# Altium footprint library alientek_sch_lib.PcbLib: 370 footprints (part 7 of 24)
Each footprint in its own frame and in the unit in brackets; x right, y up, seen from the top. Pads: shape width x height; smd on the part's side, far side on the other; paste and mask are expansions set on the pad; w line width, h text height; cw(c..) or ccw(c..) is an arc to the next point about the centre after c.
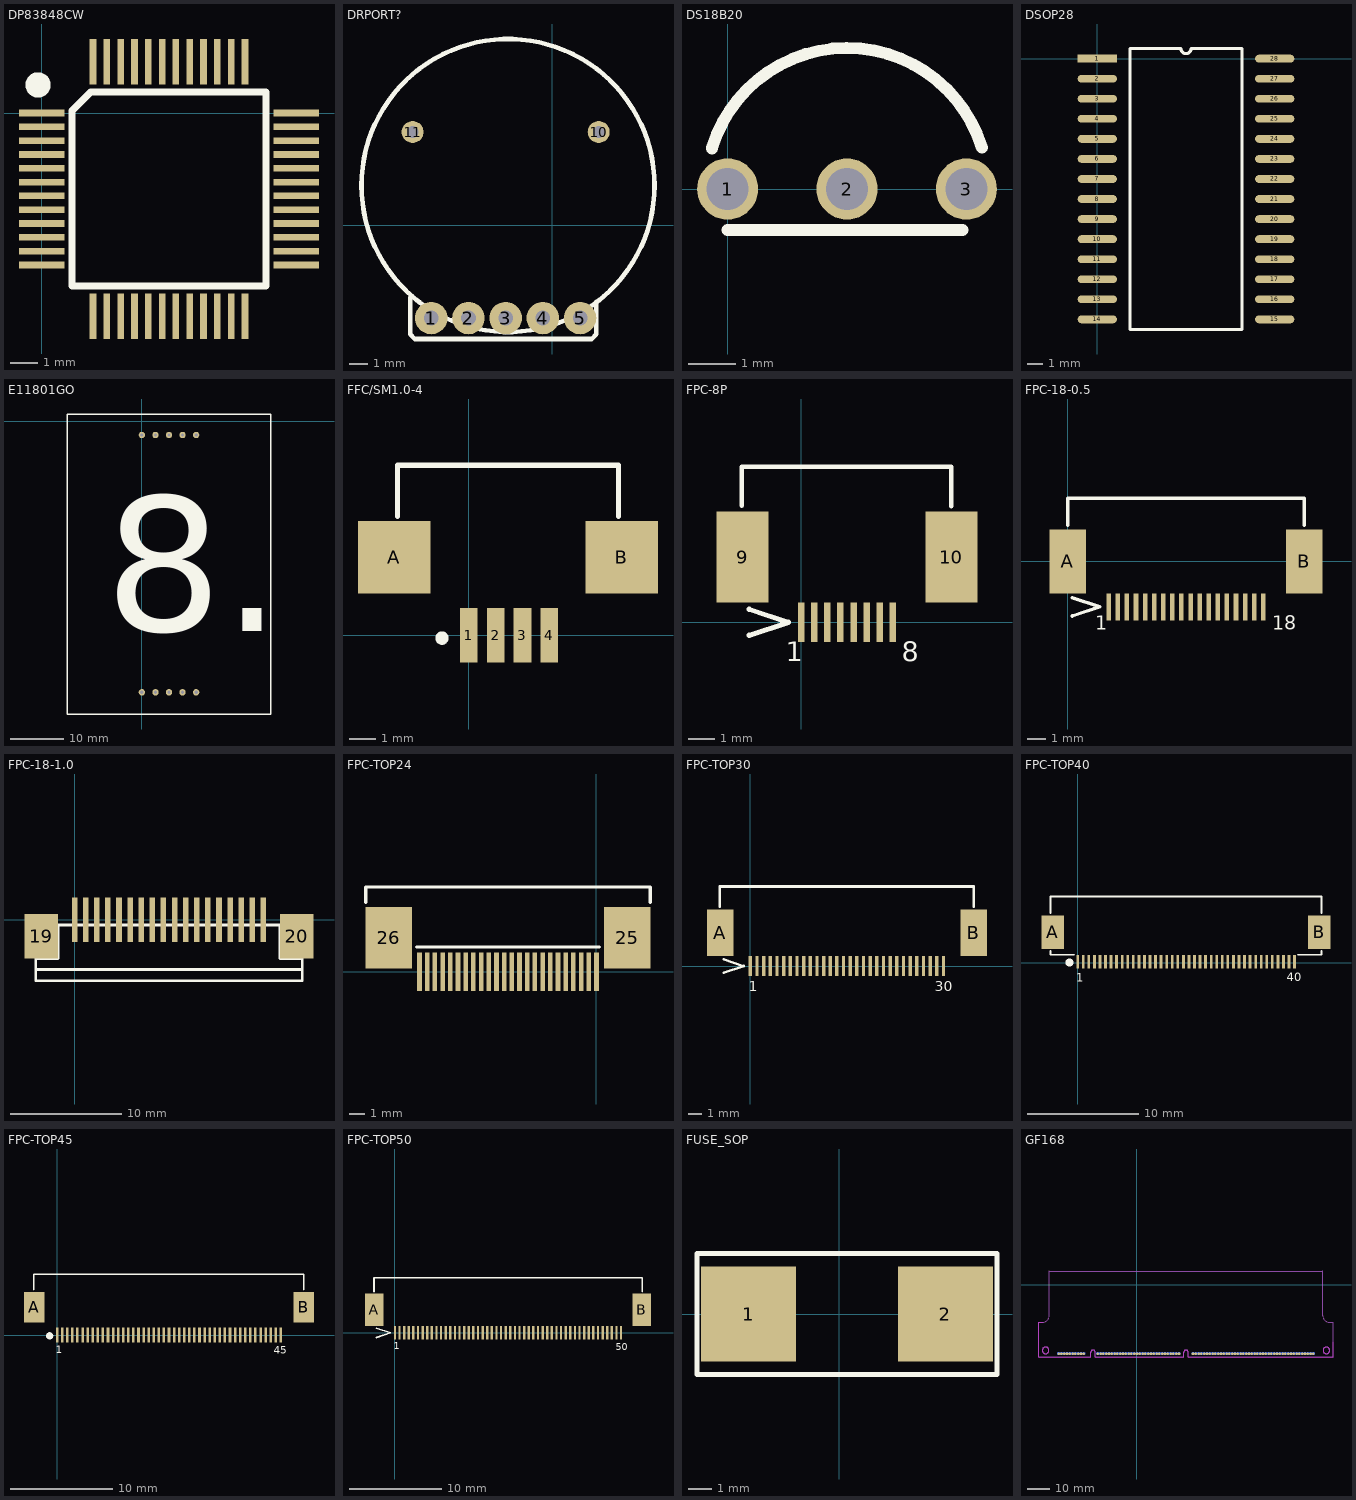
[diagram p6: the footprints below, top view; thin cyan lines are the x and y axes]

## DP83848CW [mil]
pads (48):
  rect 65x9.5 smd: 1(0.42,0.29) 2(0.42,-19.39) 3(0.42,-39.08) 4(0.42,-58.76) 5(0.42,-78.45) 6(0.42,-98.13) 7(0.42,-117.82) 8(0.42,-137.5) 9(0.42,-157.19) 10(0.42,-176.87) 11(0.42,-196.56) 12(0.42,-216.24) 25(362.63,-216.24) 26(362.63,-196.56) 27(362.63,-176.87) 28(362.63,-157.19) 29(362.63,-137.5) 30(362.63,-117.82) 31(362.63,-98.13) 32(362.63,-78.45) 33(362.63,-58.76) 34(362.63,-39.08) 35(362.63,-19.39) 36(362.63,0.29)
  rect 9.5x65 smd: 13(73.26,-289.08) 14(92.94,-289.08) 15(112.63,-289.08) 16(132.31,-289.08) 17(152,-289.08) 18(171.68,-289.08) 19(191.37,-289.08) 20(211.05,-289.08) 21(230.74,-289.08) 22(250.42,-289.08) 23(270.11,-289.08) 24(289.79,-289.08) 37(289.79,73.13) 38(270.11,73.13) 39(250.42,73.13) 40(230.74,73.13) 41(211.05,73.13) 42(191.37,73.13) 43(171.68,73.13) 44(152,73.13) 45(132.31,73.13) 46(112.63,73.13) 47(92.94,73.13) 48(73.26,73.13)
Top Overlay:
  circle w25: c-4.93,40.29 r5.35
  lines w10: 43.73,-245.77 43.73,3.6 69.95,29.82 319.32,29.82 319.32,-245.77 43.73,-245.77

## DRPORT? [mil] "DRPORT"
height 30
pads (7):
  round 70 hole 31.5: 1(-260,-200) 2(-180,-200) 3(-100,-200) 4(-20,-200) 5(60,-200)
  round 47.24 hole 25: 10(100,200) 11(-300,200)
Top Overlay:
  circle w10: c-94.96,85 r314.96
  lines w10: -305,-155 -305,-235 -295,-245 85,-245 95,-235 95,-165

## DS18B20 [mm]
height 10
pads (3):
  round 1.3 hole 0.9: 1(0,0) 2(2.54,0) 3(5.08,0)
Top Overlay:
  lines w0.254: -0.333,0.862 cw(c2.54,0) 5.407,0.885 ; 0,-0.875 5,-0.875

## DSOP28 [mm] "DSIZE"
height 1
pads (28):
  rect 2.5x0.5 smd: 1(0,0)
  oval 2.5x0.5 smd: 2(0,-1.277) 3(0,-2.554) 4(0,-3.831) 5(0,-5.108) 6(0,-6.385) 7(0,-7.662) 8(0,-8.939) 9(0,-10.216) 10(0,-11.493) 11(0,-12.77) 12(0,-14.047) 13(0,-15.324) 14(0,-16.601) 15(11.3,-16.601) 16(11.3,-15.324) 17(11.3,-14.047) 18(11.3,-12.77) 19(11.3,-11.493) 20(11.3,-10.216) 21(11.3,-8.939) 22(11.3,-7.662) 23(11.3,-6.385) 24(11.3,-5.108) 25(11.3,-3.831) 26(11.3,-2.554) 27(11.3,-1.277) 28(11.3,0)
Top Overlay:
  lines w0.2: 2.085,-17.24 2.085,0.639 5.331,0.639 ccw(c5.65,0.639) 5.969,0.639 9.215,0.639 9.215,-17.24 2.085,-17.24

## E11801GO [mm] "E11801GO"
height 1.016
pads (10):
  round 1.2 hole 0.635: 1(0,-2.54) 2(2.54,-2.54) 3(5.08,-2.54) 4(7.62,-2.54) 5(10.16,-2.54) 6(10.16,-50.8) 7(7.62,-50.8) 8(5.08,-50.8) 9(2.54,-50.8) 10(0,-50.8)
Top Overlay:
  lines w0.254: -10.16,1.397 22.86,1.397 24.13,1.397 24.13,-28.448 24.13,-54.864 -13.97,-54.864 -13.97,-38.862 -13.97,1.397 -9.906,1.397
  text "8." at -6.985,-39.37 h25.4

## FFC/SM1.0-4 [mil]
height 102.36
pads (6):
  rect 26x80 smd: 1(0,0) 2(39.37,0) 3(78.74,0) 4(118.11,0)
  rect 106.3x106.3 smd: A(-110,115) B(225,115)
Top Overlay:
  circle w9.84: c-39.63,-4 r4.92
  lines w8: -105,175 -105,250 220,250 220,175

## FPC-8P [mm] "FPC;8P;0.5mm;"
height 1
pads (10):
  rect 0.25x1.5 smd: 1(0,0) 2(0.5,0) 3(1,0) 4(1.5,0) 5(2,0) 6(2.5,0) 7(3,0) 8(3.5,0)
  rect 2x3.5 smd: 9(-2.25,2.5) 10(5.75,2.5)
Top Overlay:
  lines w0.178: -2.286,4.47 -2.286,5.969 5.75,5.969 5.75,4.45
  lines w0.2: -2,-0.5 -0.5,0 -2,0.5
  text "1" at -0.6,-1.5 h0.76
  text "8" at 3.85,-1.5 h0.76

## FPC-18-0.5 [mm] "18PIN,0.5MM"
height 1
pads (20):
  rect 0.25x1.5 smd: 1(2.25,-2.5) 2(2.75,-2.5) 3(3.25,-2.5) 4(3.75,-2.5) 5(4.25,-2.5) 6(4.75,-2.5) 7(5.25,-2.5) 8(5.75,-2.5) 9(6.25,-2.5) 10(6.75,-2.5) 11(7.25,-2.5) 12(7.75,-2.5) 13(8.25,-2.5) 14(8.75,-2.5) 15(9.25,-2.5) 16(9.75,-2.5) 17(10.25,-2.5) 18(10.75,-2.5)
  rect 2x3.5 smd: A(0,0) B(13,0)
Top Overlay:
  lines w0.2: 0.25,-3 1.75,-2.5 0.25,-2
  lines w0.203: 0,2 0,3.469 13,3.469 13,2
  text "18" at 11.25,-3.75 h0.76
  text "1" at 1.5,-3.75 h0.76

## FPC-18-1.0 [mm] "18PIN,1.0MM"
height 1
pads (20):
  rect 0.5x4 smd: 1(0,0) 2(1,0) 3(2,0) 4(3,0) 5(4,0) 6(5,0) 7(6,0) 8(7,0) 9(8,0) 10(9,0) 11(10,0) 12(11,0) 13(12,0) 14(13,0) 15(14,0) 16(15,0) 17(16,0) 18(17,0)
  rect 3x4 smd: 19(-3,-1.5) 20(20,-1.5)
Top Overlay:
  lines w0.254: -3.5,-4.5 20.5,-4.5 ; -3.5,-3.5 -1.5,-3.5 -1.5,-0.5 ; 18.5,-0.5 18.5,-3.5 20.5,-3.5 ; -3.5,-5.5 20.5,-5.5 20.5,-0.5 -3.5,-0.5 -3.5,-5.5

## FPC-TOP24 [mm] "FPCTOP;0.5mm;"
height 1
pads (26):
  rect 0.3x2.5 smd: 1(0,0) 2(-0.5,0) 3(-1,0) 4(-1.5,0) 5(-2,0) 6(-2.5,0) 7(-3,0) 8(-3.5,0) 9(-4,0) 10(-4.5,0) 11(-5,0) 12(-5.5,0) 13(-6,0) 14(-6.5,0) 15(-7,0) 16(-7.5,0) 17(-8,0) 18(-8.5,0) 19(-9,0) 20(-9.5,0) 21(-10,0) 22(-10.5,0) 23(-11,0) 24(-11.5,0)
  rect 3x4 smd: 25(2,2.2) 26(-13.5,2.2)
Top Overlay:
  lines w0.203: -15,4.5 -15,5.5 3.5,5.5 3.5,4.6 3.5,4.5 ; -11.7,1.6 0.2,1.6

## FPC-TOP30 [mm] "FPCTOP;0.5mm;"
height 1
pads (32):
  rect 0.25x1.5 smd: 1(0,0) 2(0.5,0) 3(1,0) 4(1.5,0) 5(2,0) 6(2.5,0) 7(3,0) 8(3.5,0) 9(4,0) 10(4.5,0) 11(5,0) 12(5.5,0) 13(6,0) 14(6.5,0) 15(7,0) 16(7.5,0) 17(8,0) 18(8.5,0) 19(9,0) 20(9.5,0) 21(10,0) 22(10.5,0) 23(11,0) 24(11.5,0) 25(12,0) 26(12.5,0) 27(13,0) 28(13.5,0) 29(14,0) 30(14.5,0)
  rect 2x3.5 smd: A(-2.25,2.5) B(16.764,2.5)
Top Overlay:
  lines w0.2: -2,-0.5 -0.5,0 -2,0.5
  lines w0.203: -2.286,4.47 -2.286,5.969 16.764,5.969 16.764,4.47
  text "1" at -0.127,-1.905 h0.76
  text "30" at 13.843,-1.905 h0.76

## FPC-TOP40 [mm] "FPCTOP;0.5mm;"
height 1
pads (42):
  rect 0.25x1.2 smd: 1(0,0.102) 2(0.5,0.102) 3(1,0.102) 4(1.5,0.102) 5(2,0.102) 6(2.5,0.102) 7(3,0.102) 8(3.5,0.102) 9(4,0.102) 10(4.5,0.102) 11(5,0.102) 12(5.5,0.102) 13(6,0.102) 14(6.5,0.102) 15(7,0.102) 16(7.5,0.102) 17(8,0.102) 18(8.5,0.102) 19(9,0.102) 20(9.5,0.102) 21(10,0.102) 22(10.5,0.102) 23(11,0.102) 24(11.5,0.102) 25(12,0.102) 26(12.5,0.102) 27(13,0.102) 28(13.5,0.102) 29(14,0.102) 30(14.5,0.102) 31(15,0.102) 32(15.5,0.102) 33(16,0.102) 34(16.5,0.102) 35(17,0.102) 36(17.5,0.102) 37(18,0.102) 38(18.5,0.102) 39(19,0.102) 40(19.5,0.102)
  rect 2x3 smd: A(-2.25,2.754) B(21.725,2.754)
Top Overlay:
  circle w0.356: c-0.737,0.025 r0.178
  lines w0.127: -2.45,0.731 -2.438,0.719
  lines w0.152: -2.45,0.719 -0.305,0.719 ; -2.45,0.731 -2.45,1.067 ; -2.45,4.445 -2.45,5.969 21.925,5.969 21.925,4.47 ; 19.794,0.711 21.925,0.711 21.925,1.067
  text "40" at 18.796,-1.676 h0.76
  text "1" at -0.142,-1.691 h0.76

## FPC-TOP45 [mm] "FPCTOP;0.5mm;"
height 1
pads (47):
  rect 0.25x1.5 smd: 1(0,0) 2(0.5,0) 3(1,0) 4(1.5,0) 5(2,0) 6(2.5,0) 7(3,0) 8(3.5,0) 9(4,0) 10(4.5,0) 11(5,0) 12(5.5,0) 13(6,0) 14(6.5,0) 15(7,0) 16(7.5,0) 17(8,0) 18(8.5,0) 19(9,0) 20(9.5,0) 21(10,0) 22(10.5,0) 23(11,0) 24(11.5,0) 25(12,0) 26(12.5,0) 27(13,0) 28(13.5,0) 29(14,0) 30(14.5,0) 31(15,0) 32(15.5,0) 33(16,0) 34(16.5,0) 35(17,0) 36(17.5,0) 37(18,0) 38(18.5,0) 39(19,0) 40(19.5,0) 41(20,0) 42(20.5,0) 43(21,0) 44(21.5,0) 45(22,0)
  rect 2x3 smd: A(-2.25,2.754) B(24.25,2.754)
Top Overlay:
  circle w0.356: c-0.737,-0.076 r0.178
  lines w0.152: -2.286,4.47 -2.286,5.969 22.306,5.969 24.25,5.969 24.25,4.47
  text "45" at 21.311,-1.829 h0.76
  text "1" at -0.142,-1.793 h0.76

## FPC-TOP50 [mm] "FPCTOP;0.5mm;"
height 1
pads (52):
  rect 0.25x1.5 smd: 1(0,0) 2(0.5,0) 3(1,0) 4(1.5,0) 5(2,0) 6(2.5,0) 7(3,0) 8(3.5,0) 9(4,0) 10(4.5,0) 11(5,0) 12(5.5,0) 13(6,0) 14(6.5,0) 15(7,0) 16(7.5,0) 17(8,0) 18(8.5,0) 19(9,0) 20(9.5,0) 21(10,0) 22(10.5,0) 23(11,0) 24(11.5,0) 25(12,0) 26(12.5,0) 27(13,0) 28(13.5,0) 29(14,0) 30(14.5,0) 31(15,0) 32(15.5,0) 33(16,0) 34(16.5,0) 35(17,0) 36(17.5,0) 37(18,0) 38(18.5,0) 39(19,0) 40(19.5,0) 41(20,0) 42(20.5,0) 43(21,0) 44(21.5,0) 45(22,0) 46(22.5,0) 47(23,0) 48(23.5,0) 49(24,0) 50(24.5,0)
  rect 2x3.5 smd: A(-2.25,2.5) B(26.75,2.5)
Top Overlay:
  lines w0.2: -2,-0.5 -0.5,0 -2,0.5
  lines w0.203: -2.286,4.47 -2.286,5.969 22.306,5.969 26.797,5.969 26.797,4.47
  text "1" at -0.142,-1.793 h0.76
  text "50" at 23.912,-1.894 h0.76

## FUSE_SOP [mm] "4A;SOP;FUSE;W:5mm;L:12mm;"
height 2
pads (2):
  rect 4x4 smd: 1(-3.81,0) 2(4.445,0)
Top Overlay:
  lines w0.2: -5.969,-2.54 6.604,-2.54 6.604,2.54 -4.699,2.54 -5.969,2.54 -5.969,-2.54

## GF168 [mm] "PORT"
height 50
pads (168):
  oct 1.2x1.2 smd: A1(-35.382,-31.242) A2(-34.112,-31.242) A3(-32.842,-31.242) A4(-31.572,-31.242) A5(-30.302,-31.242) A6(-29.032,-31.242) A7(-27.762,-31.242) A8(-26.492,-31.242) A9(-25.222,-31.242) A10(-23.952,-31.242) A11(-17.602,-31.242) A12(-16.332,-31.242) A13(-15.062,-31.242) A14(-13.792,-31.242) A15(-12.522,-31.242) A16(-11.252,-31.242) A17(-9.982,-31.242) A18(-8.712,-31.242) A19(-7.442,-31.242) A20(-6.172,-31.242) A21(-4.902,-31.242) A22(-3.632,-31.242) A23(-2.362,-31.242) A24(-1.092,-31.242) A25(0.178,-31.242) A26(1.448,-31.242) A27(2.718,-31.242) A28(3.988,-31.242) A29(5.258,-31.242) A30(6.528,-31.242) A31(7.798,-31.242) A32(9.068,-31.242) A33(10.338,-31.242) A34(11.608,-31.242) A35(12.878,-31.242) A36(14.148,-31.242) A37(15.418,-31.242) A38(16.688,-31.242) A39(17.958,-31.242) A40(19.228,-31.242) A41(25.578,-31.242) A42(26.848,-31.242) A43(28.118,-31.242) A44(29.388,-31.242) A45(30.658,-31.242) A46(31.928,-31.242) A47(33.198,-31.242) A48(34.468,-31.242) A49(35.738,-31.242) A50(37.008,-31.242) A51(38.278,-31.242) A52(39.548,-31.242) A53(40.818,-31.242) A54(42.088,-31.242) A55(43.358,-31.242) A56(44.628,-31.242) A57(45.898,-31.242) A58(47.168,-31.242) A59(48.438,-31.242) A60(49.708,-31.242) A61(50.978,-31.242) A62(52.248,-31.242) A63(53.518,-31.242) A64(54.788,-31.242) A65(56.058,-31.242) A66(57.328,-31.242) A67(58.598,-31.242) A68(59.868,-31.242) A69(61.138,-31.242) A70(62.408,-31.242) A71(63.678,-31.242) A72(64.948,-31.242) A73(66.218,-31.242) A74(67.488,-31.242) A75(68.758,-31.242) A76(70.028,-31.242) A77(71.298,-31.242) A78(72.568,-31.242) A79(73.838,-31.242) A80(75.108,-31.242) A81(76.378,-31.242) A82(77.648,-31.242) A83(78.918,-31.242) A84(80.188,-31.242)
  oct 1.2x1.2 smd far side: B1(-35.382,-31.242) B2(-34.112,-31.242) B3(-32.842,-31.242) B4(-31.572,-31.242) B5(-30.302,-31.242) B6(-29.032,-31.242) B7(-27.762,-31.242) B8(-26.492,-31.242) B9(-25.222,-31.242) B10(-23.952,-31.242) B11(-17.602,-31.242) B12(-16.332,-31.242) B13(-15.062,-31.242) B14(-13.792,-31.242) B15(-12.522,-31.242) B16(-11.252,-31.242) B17(-9.982,-31.242) B18(-8.712,-31.242) B19(-7.442,-31.242) B20(-6.172,-31.242) B21(-4.902,-31.242) B22(-3.632,-31.242) B23(-2.362,-31.242) B24(-1.092,-31.242) B25(0.178,-31.242) B26(1.448,-31.242) B27(2.718,-31.242) B28(3.988,-31.242) B29(5.258,-31.242) B30(6.528,-31.242) B31(7.798,-31.242) B32(9.068,-31.242) B33(10.338,-31.242) B34(11.608,-31.242) B35(12.878,-31.242) B36(14.148,-31.242) B37(15.418,-31.242) B38(16.688,-31.242) B39(17.958,-31.242) B40(19.228,-31.242) B41(25.578,-31.242) B42(26.848,-31.242) B43(28.118,-31.242) B44(29.388,-31.242) B45(30.658,-31.242) B46(31.928,-31.242) B47(33.198,-31.242) B48(34.468,-31.242) B49(35.738,-31.242) B50(37.008,-31.242) B51(38.278,-31.242) B52(39.548,-31.242) B53(40.818,-31.242) B54(42.088,-31.242) B55(43.358,-31.242) B56(44.628,-31.242) B57(45.898,-31.242) B58(47.168,-31.242) B59(48.438,-31.242) B60(49.708,-31.242) B61(50.978,-31.242) B62(52.248,-31.242) B63(53.518,-31.242) B64(54.788,-31.242) B65(56.058,-31.242) B66(57.328,-31.242) B67(58.598,-31.242) B68(59.868,-31.242) B69(61.138,-31.242) B70(62.408,-31.242) B71(63.678,-31.242) B72(64.948,-31.242) B73(66.218,-31.242) B74(67.488,-31.242) B75(68.758,-31.242) B76(70.028,-31.242) B77(71.298,-31.242) B78(72.568,-31.242) B79(73.838,-31.242) B80(75.108,-31.242) B81(76.378,-31.242) B82(77.648,-31.242) B83(78.918,-31.242) B84(80.188,-31.242)
Keep-Out Layer:
  lines w0.254: -44.348,-17.058 -44.323,-17.033
Keep-Out Layer:
  circle w0.254: c86.078,-29.777 r1.5
  circle w0.254: c-41.272,-29.777 r1.5
  lines w0.254: -44.348,-17.82 -44.348,-17.058 ; -44.347,-22.9 -44.347,-17.083 ; -44.347,-22.622 -44.347,-32.777 -23.952,-32.777 -20.777,-32.777 -20.777,-30.657 cw(c-19.777,-30.657) -18.777,-30.657 -18.777,-32.777 21.403,-32.777 21.403,-30.657 cw(c22.403,-30.657) 23.403,-30.657 23.403,-32.777 89.153,-32.777 89.153,-25.95 ; -44.323,-17.033 -42.672,-17.033
Mechanical 1:
  circle w0.254: c86.078,-29.762 r1.5
  circle w0.254: c-41.272,-29.762 r1.5
  lines w0.254: -44.348,-17.805 -44.348,-17.043 -44.323,-17.018 -42.672,-17.018 ; -44.347,-22.885 -44.347,-17.068 ; -44.347,-22.607 -44.347,-32.762 -23.952,-32.762 -20.777,-32.762 -20.777,-30.642 cw(c-19.777,-30.642) -18.777,-30.642 -18.777,-32.762 21.403,-32.762 21.403,-30.642 cw(c22.403,-30.642) 23.403,-30.642 23.403,-32.762 89.153,-32.762 89.153,-25.935 ; -42.649,-17.021 ccw(c-42.649,-14.021) -39.649,-14.021 -39.649,6.248 ; -39.597,6.238 84.403,6.238 ; 84.43,-14.021 84.43,6.248 ; 84.455,-14.021 ccw(c87.455,-14.021) 87.455,-17.021 ; 87.274,-17.018 89.103,-17.018 ; 89.153,-26.238 89.153,-16.991